# Altium footprint library jasiel.PcbLib: 39 footprints (part 2 of 3)
Each footprint in its own frame and in the unit in brackets; x right, y up, seen from the top. Pads: shape width x height; smd on the part's side, far side on the other; paste and mask are expansions set on the pad; w line width, h text height; cw(c..) or ccw(c..) is an arc to the next point about the centre after c.
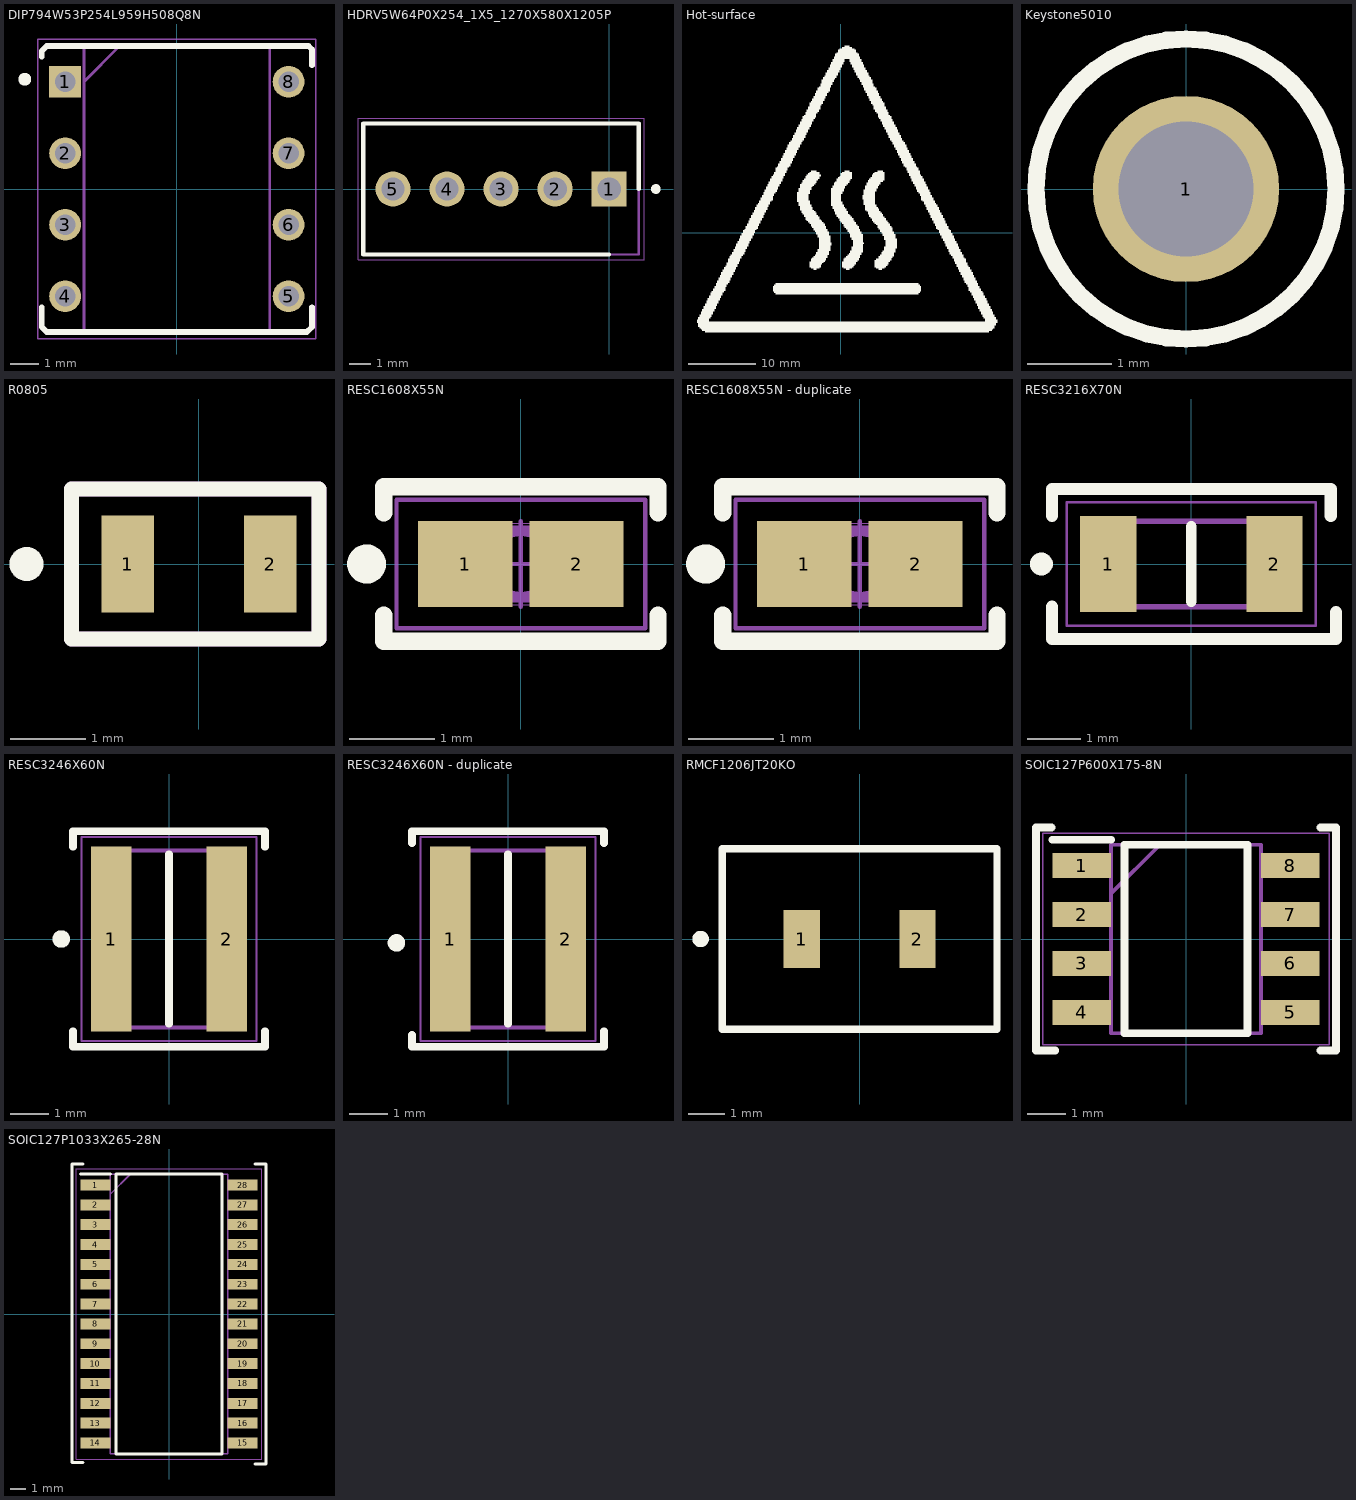
[diagram p1: the footprints below, top view; thin cyan lines are the x and y axes]

## DIP794W53P254L959H508Q8N [mm]
pads (8):
  rect 1.13x1.13 hole 0.73: 1(-3.97,3.81)
  round 1.13 hole 0.73: 2(-3.97,1.27) 3(-3.97,-1.27) 4(-3.97,-3.81) 5(3.97,-3.81) 6(3.97,-1.27) 7(3.97,1.27) 8(3.97,3.81)
Top Overlay:
  circle w0.254: c-5.4,3.9 r0.1
  lines w0.2: -4.535,5.08 3.3,5.08 ; -3.3,-5.08 3.3,-5.08
  lines w0.203: -4.8,-4.2 -4.8,-4.9 -4.62,-5.08 -3.3,-5.08 ; -4.8,4.7 -4.8,4.9 -4.62,5.08 -4.535,5.08 ; 3.3,-5.08 4.62,-5.08 4.8,-4.9 4.8,-4.2 ; 3.3,5.08 4.68,5.08 4.8,4.96 4.8,4.4
Mechanical 13:
  lines w0.1: -3.3,3.81 -2.03,5.08 ; -3.3,-5.08 -3.3,5.08 3.3,5.08 3.3,-5.08 -3.3,-5.08
Mechanical 15:
  lines w0.05: -4.945,-5.33 -4.945,5.33 4.945,5.33 4.945,-5.33 -4.945,-5.33
3D body "SN75454BP.stp": height 5.08, standoff -3.5, extent -4.102,-4.795 4.102,4.795

## HDRV5W64P0X254_1X5_1270X580X1205P [mm]
pads (5):
  rect 1.65x1.65 hole 1.1: 1(0,0)
  round 1.65 hole 1.1: 2(-2.54,0) 3(-5.08,0) 4(-7.62,0) 5(-10.16,0)
Top Overlay:
  circle w0.254: c2.2,0 r0.1
  lines w0.2: 0,-3.075 -11.555,-3.075 -11.555,3.075 1.395,3.075 1.395,0
Mechanical 13:
  lines w0.1: -11.555,-3.075 -11.555,3.075 1.395,3.075 1.395,-3.075 -11.555,-3.075
Mechanical 15:
  lines w0.05: -11.805,-3.325 -11.805,3.325 1.645,3.325 1.645,-3.325 -11.805,-3.325
3D body "22-27-2051.stp": height 12.05, standoff -3.81, extent -11.43,-2.9 1.27,2.9

## Hot-surface [mm]
Top Overlay:
  drawing of 5 lines, arcs and shapes, not listed

## Keystone5010 [mil]
pads (1):
  round 87 hole 63: 1(0,0)
Top Overlay:
  circle w7.99: c0,0 r70
Mechanical 5:
  circle w5: c0,0 r69.46
  text ".Designator" at -55,-10 h30
3D body "Keystone_5010.stp": height 318.9, standoff -125.98, extent -63,-63 62.74,62.49

## PCBComponent_1 [mm]

## PCBComponent_1 - duplicate [mm]

## PCBComponent_1 - duplicate1 [mm]

## R0805 [mm]
pads (2):
  rect 0.7x1.3 smd: 1(-0.95,0) 2(0.95,0)
Top Overlay:
  circle w0.254: c-2.3,0 r0.1
  lines w0.2: -1.7,-1 1.6,-1 1.6,1 -1.7,1 -1.7,-1
Mechanical 2:
  lines w0.2: -1.7,-1 1.6,-1 1.6,1 -1.7,1 -1.7,-1
  text "'.Designator'" at -1.5,-0.367 h0.7
3D body "User Library-CR2012-0805.step": height 0.61, standoff 0.01, extent -1,-0.625 1,0.625

## RESC1608X55N [mm]
pads (2):
  rect 1.1x1 smd: 1(-0.65,0) 2(0.65,0)
Top Overlay:
  circle w0.254: c-1.8,0 r0.1
  lines w0.203: -1.6,-0.6 -1.6,-0.9 1.6,-0.9 1.6,-0.6 ; -1.6,0.6 -1.6,0.9 1.6,0.9 1.6,0.6
Mechanical 13:
  lines w0.1: -0.8,-0.4 0.8,-0.4 0.8,0.4 -0.8,0.4 -0.8,-0.4
Mechanical 15:
  circle w0.05: c0,0 r0.35
  lines w0.001: -0.85,-0.475 0.85,-0.475 0.85,0.475 -0.85,0.475 -0.85,-0.475
  lines w0.05: -0.5,0 0.5,0 ; 0,-0.5 0,0.5 ; -1.45,-0.75 1.45,-0.75 1.45,0.75 -1.45,0.75 -1.45,-0.75
3D body "RC0603JR-13100RL.stp": height 0.55, standoff 0, extent -0.8,-0.4 0.8,0.4

## RESC1608X55N - duplicate [mm]
pads (2):
  rect 1.1x1 smd: 1(-0.65,0) 2(0.65,0)
Top Overlay:
  circle w0.254: c-1.8,0 r0.1
  lines w0.203: -1.6,-0.6 -1.6,-0.9 1.6,-0.9 1.6,-0.6 ; -1.6,0.6 -1.6,0.9 1.6,0.9 1.6,0.6
Mechanical 13:
  lines w0.1: -0.8,-0.4 -0.8,0.4 0.8,0.4 0.8,-0.4 -0.8,-0.4
Mechanical 15:
  circle w0.05: c0,0 r0.35
  lines w0.001: -0.85,-0.475 -0.85,0.475 0.85,0.475 0.85,-0.475 -0.85,-0.475
  lines w0.05: -0.5,0 0.5,0 ; 0,-0.5 0,0.5 ; -1.45,-0.75 -1.45,0.75 1.45,0.75 1.45,-0.75 -1.45,-0.75
3D body "RC0603JR-13100RL.stp": height 0.55, standoff 0, extent -0.8,-0.4 0.8,0.4

## RESC3216X70N [mm]
pads (2):
  rect 1.05x1.8 smd: 1(-1.55,0) 2(1.55,0)
Top Overlay:
  circle w0.229: c-2.8,0 r0.1
  lines w0.2: 0,-0.7 0,0.7
  lines w0.229: -2.6,-0.8 -2.6,-1.4 2.7,-1.4 2.7,-0.9 ; -2.6,0.9 -2.6,1.4 2.6,1.4 2.6,0.9
Mechanical 13:
  lines w0.1: -1.6,-0.8 1.6,-0.8 1.6,0.8 -1.6,0.8 -1.6,-0.8
Mechanical 15:
  lines w0.05: -2.325,-1.15 2.325,-1.15 2.325,1.15 -2.325,1.15 -2.325,-1.15
3D body "RN73H2BTTD1001B10.stp": height 0.7, standoff 0, extent -1.6,-0.8 1.6,0.8

## RESC3246X60N [mm]
pads (2):
  rect 1.05x4.8 smd: 1(-1.5,0) 2(1.5,0)
Top Overlay:
  circle w0.254: c-2.8,0 r0.1
  lines w0.2: 0,-2.2 0,2.2
  lines w0.203: -2.5,-2.4 -2.5,-2.8 2.5,-2.8 2.5,-2.4 ; -2.5,2.4 -2.5,2.8 2.5,2.8 2.5,2.4
Mechanical 13:
  lines w0.1: -1.575,-2.3 -1.575,2.3 1.575,2.3 1.575,-2.3 -1.575,-2.3
Mechanical 15:
  lines w0.05: -2.275,-2.65 -2.275,2.65 2.275,2.65 2.275,-2.65 -2.275,-2.65
3D body "RCL121847R0JNEK.stp": height 0.6, standoff 0, extent -1.575,-2.3 1.575,2.3

## RESC3246X60N - duplicate [mm]
pads (2):
  rect 1.05x4.8 smd: 1(-1.5,0) 2(1.5,0)
Top Overlay:
  circle w0.254: c-2.9,-0.1 r0.1
  lines w0.2: 0,-2.2 0,2.2
  lines w0.203: -2.5,-2.5 -2.5,-2.8 2.5,-2.8 2.5,-2.4 ; -2.5,2.5 -2.5,2.8 2.5,2.8 2.5,2.5
Mechanical 13:
  lines w0.1: -1.575,-2.3 1.575,-2.3 1.575,2.3 -1.575,2.3 -1.575,-2.3
Mechanical 15:
  lines w0.05: -2.275,-2.65 2.275,-2.65 2.275,2.65 -2.275,2.65 -2.275,-2.65
3D body "RCL121847R0JNEK.stp": height 0.6, standoff 0, extent -1.575,-2.3 1.575,2.3

## RMCF1206JT20KO [mm]
pads (2):
  rect 1x1.6 smd: 1(-1.6,0) 2(1.6,0)
Top Overlay:
  circle w0.254: c-4.4,0 r0.1
  lines w0.2: -3.8,-2.5 3.8,-2.5 3.8,2.5 -3.8,2.5 -3.8,0 -3.8,-2.5

## SOIC127P600X175-8N [mm]
pads (8):
  rect 1.525x0.65 smd: 1(-2.712,1.905) 2(-2.712,0.635) 3(-2.712,-0.635) 4(-2.712,-1.905) 5(2.712,-1.905) 6(2.712,-0.635) 7(2.712,0.635) 8(2.712,1.905)
Top Overlay:
  lines w0.2: -3.475,2.58 -1.95,2.58 ; -1.6,-2.45 -1.6,2.45 1.6,2.45 1.6,-2.45 -1.6,-2.45
  lines w0.203: -3.5,2.9 -3.9,2.9 -3.9,-2.9 -3.4,-2.9 ; 3.5,-2.9 3.9,-2.9 3.9,2.9 3.5,2.9
Mechanical 13:
  lines w0.1: -1.95,1.18 -0.68,2.45 ; -1.95,-2.45 -1.95,2.45 1.95,2.45 1.95,-2.45 -1.95,-2.45
Mechanical 15:
  lines w0.05: -3.725,-2.75 -3.725,2.75 3.725,2.75 3.725,-2.75 -3.725,-2.75
3D body "NE555DR.stp": height 1.75, standoff 0, extent -2.5,-2.45 3.5,2.45

## SOIC127P1033X265-28N [mm]
pads (28):
  rect 1.925x0.7 smd: 1(-4.712,8.255) 2(-4.712,6.985) 3(-4.712,5.715) 4(-4.712,4.445) 5(-4.712,3.175) 6(-4.712,1.905) 7(-4.712,0.635) 8(-4.712,-0.635) 9(-4.712,-1.905) 10(-4.712,-3.175) 11(-4.712,-4.445) 12(-4.712,-5.715) 13(-4.712,-6.985) 14(-4.712,-8.255) 15(4.712,-8.255) 16(4.712,-6.985) 17(4.712,-5.715) 18(4.712,-4.445) 19(4.712,-3.175) 20(4.712,-1.905) 21(4.712,-0.635) 22(4.712,0.635) 23(4.712,1.905) 24(4.712,3.175) 25(4.712,4.445) 26(4.712,5.715) 27(4.712,6.985) 28(4.712,8.255)
Top Overlay:
  lines w0.2: -5.675,8.955 -3.75,8.955 ; -3.4,-8.95 -3.4,8.95 3.4,8.95 3.4,-8.95 -3.4,-8.95
  lines w0.203: -5.5,-9.5 -6.2,-9.5 -6.2,9.6 -5.5,9.6 ; 5.5,-9.6 6.2,-9.6 6.2,9.6 5.5,9.6
Mechanical 13:
  lines w0.1: -3.75,7.68 -2.48,8.95 ; -3.75,-8.95 -3.75,8.95 3.75,8.95 3.75,-8.95 -3.75,-8.95
Mechanical 15:
  lines w0.05: -5.925,-9.3 -5.925,9.3 5.925,9.3 5.925,-9.3 -5.925,-9.3
3D body "DCP020505U.stp": height 2.65, standoff 0, extent -5.165,-8.95 5.165,8.95